# EAGLE library part TIL198 (library optocoupler-jlb)
TEXAS INSTRUMENTS OPTO COUPLER
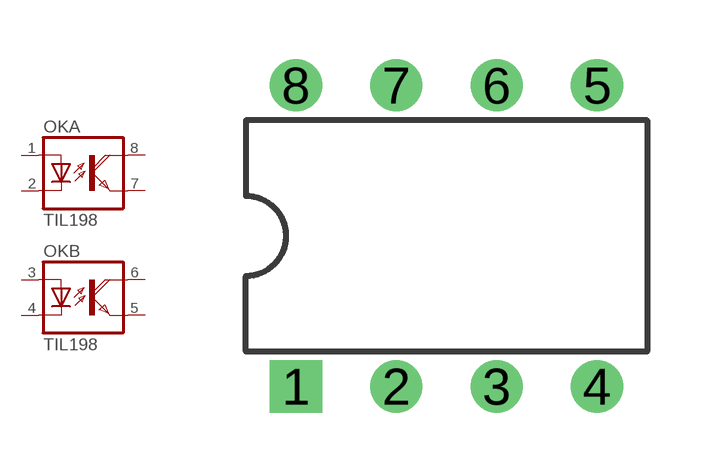
[diagram p14: symbol with the pads of DIL08; footprint DIL08]

Designator prefix OK; gates A=OK-D B=OK-D

## TIL198 (OC_FARNELL: unknown; OC_NEWARK: unknown)  [DIL08]
1  A:A  pas
2  A:C  pas
3  B:A  pas
4  B:C  pas
5  B:EMI  pas
6  B:COL  pas
7  A:EMI  pas
8  A:COL  pas

## Footprint DIL08 (pad centres in mm)
Dual In Line Package
drill 0.813 square: 1 -3.81,-3.81
drill 0.813: 2 -1.27,-3.81; 3 1.27,-3.81; 4 3.81,-3.81; 5 3.81,3.81; 6 1.27,3.81; 7 -1.27,3.81; 8 -3.81,3.81